# Altium footprint library Roby-Eva1.PcbLib: 14 footprints
Each footprint in its own frame and in the unit in brackets; x right, y up, seen from the top. Pads: shape width x height; smd on the part's side, far side on the other; paste and mask are expansions set on the pad; w line width, h text height; cw(c..) or ccw(c..) is an arc to the next point about the centre after c.
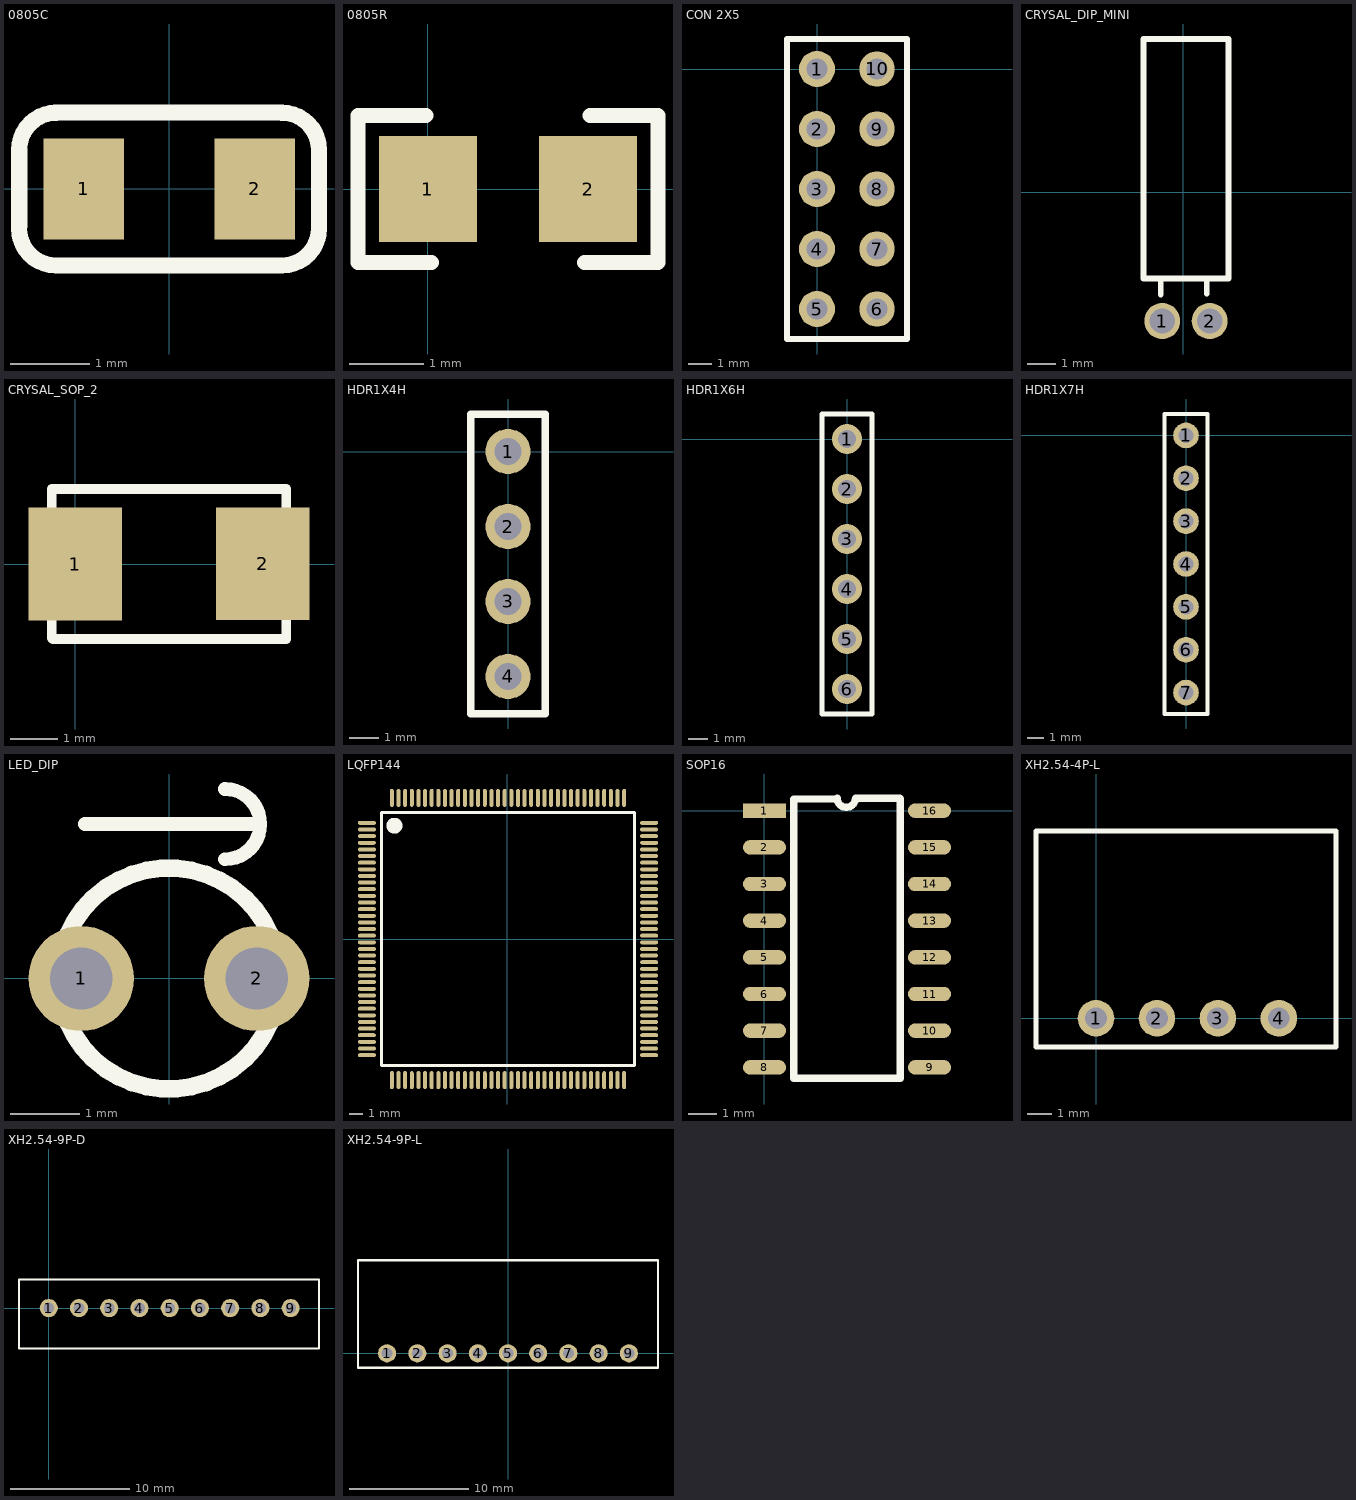
[diagram p0: the footprints below, top view; thin cyan lines are the x and y axes]

## 0805C [mil]
pads (2):
  rect 40x50 smd: 1(-42.5,0) 2(42.5,0)
Top Overlay:
  lines w8: -74.61,-19.59 ccw(c-56.2,-19.59) -56.2,-38 ; -74.5,-18.5 -74.5,18.5 ; -74.5,19.5 cw(c-56.09,19.5) -56.09,37.91 ; -56.62,38 55.59,38 ; -55.2,-38 55.61,-38 ; 56.09,-38 ccw(c56.09,-19.59) 74.5,-19.59 ; 56.09,37.91 cw(c56.09,19.5) 74.5,19.5 ; 74.5,-18.59 74.5,18.5
3D body: height 30.39, standoff -0.39, extent -39.35,-24.61 39.39,24.61

## 0805R [mil]
pads (2):
  rect 52x56 smd: 1(0,0) 2(85,0)
Top Overlay:
  lines w8: -1,39 -37,39 -37,-39 2,-39 ; 83,-39 122,-39 122,39 86,39
3D body: height 30.39, standoff -0.39, extent 3.26,-24.61 82,24.61

## CON 2X5 [mm]
height 10
pads (10):
  round 1.524 hole 0.9: 1(0,0) 2(0,-2.54) 3(0,-5.08) 4(0,-7.62) 5(0,-10.16)
  round 1.5 hole 0.9: 6(2.54,-10.16) 7(2.54,-7.62) 8(2.54,-5.08) 9(2.54,-2.54) 10(2.54,0)
Top Overlay:
  lines w0.254: -1.27,-11.43 -1.27,1.27 3.81,1.27 3.81,-11.43 -1.27,-11.43
3D body: height 2, standoff 0, extent -1.27,-11.43 3.81,1.27
3D body: height 10, standoff 0, extent -0.493,-10.649 0.507,-9.649
3D body: height 10, standoff 0, extent -0.507,-5.591 0.493,-4.591
3D body: height 10, standoff 0, extent -0.507,-8.131 0.493,-7.131
3D body: height 10, standoff 0, extent -0.507,-3.051 0.493,-2.051
3D body: height 10, standoff 0, extent -0.507,-0.511 0.493,0.489
3D body: height 10, standoff 0, extent 2.033,-0.511 3.033,0.489
3D body: height 10, standoff 0, extent 2.033,-3.051 3.033,-2.051
3D body: height 10, standoff 0, extent 2.033,-8.131 3.033,-7.131
3D body: height 10, standoff 0, extent 2.033,-5.591 3.033,-4.591
3D body: height 10, standoff 0, extent 2.047,-10.649 3.047,-9.649

## CRYSAL_DIP_MINI [mil] "晶振 小"
height 118.11
pads (2):
  round 50 hole 35: 1(-29,-179) 2(37,-179)
Top Overlay:
  lines w8: -31,-142 -31,-122 ; 33,-141 33,-122 ; -55,-120 -55,213 63.06,213 63.06,-120 -55,-120
3D body: height 122.05, standoff -133.86, extent -55.05,-189.14 63.06,211.97

## CRYSAL_SOP_2 [mm]
pads (2):
  rect 2x2.4 smd: 1(0,0) 2(4,0)
Top Overlay:
  lines w0.203: -0.5,-1.583 -0.5,1.6 4.5,1.6 4.5,-1.6 -0.483,-1.6 -0.5,-1.583
3D body: height 1.2, standoff 0, extent -0.483,-1.575 4.496,1.6

## HDR1X4H [mil]
pads (4):
  round 60 hole 35.43: 1(0,0) 2(0,-100) 3(0,-200) 4(0,-300)
Top Overlay:
  lines w10: -50,-350 50,-350 50,50 -50,50 -50,-350
3D body: height 393.7, standoff 0, extent -19.96,-320.13 19.41,-280.76
3D body: height 393.7, standoff 0, extent -19.96,-220.13 19.41,-180.76
3D body: height 393.7, standoff 0, extent -19.96,-120.13 19.41,-80.76
3D body: height 393.7, standoff 0, extent -19.96,-20.13 19.41,19.24
3D body: height 78.74, standoff 0, extent -50,-350 50,50

## HDR1X6H [mil]
pads (6):
  round 60 hole 35.43: 1(0,0) 2(0,-100) 3(0,-200) 4(0,-300) 5(0,-400) 6(0,-500)
Top Overlay:
  lines w10: -50,-550 50,-550 50,50 -50,50 -50,-550
3D body: height 393.7, standoff 0, extent -19.96,-20.13 19.41,19.24
3D body: height 393.7, standoff 0, extent -19.96,-120.13 19.41,-80.76
3D body: height 393.7, standoff 0, extent -19.96,-320.13 19.41,-280.76
3D body: height 393.7, standoff 0, extent -19.96,-220.13 19.41,-180.76
3D body: height 393.7, standoff 0, extent -19.41,-519.24 19.96,-479.87
3D body: height 393.7, standoff 0, extent -19.41,-419.24 19.96,-379.87
3D body: height 78.74, standoff 0, extent -50,-550 50,50

## HDR1X7H [mil]
pads (7):
  round 60 hole 35.43: 1(0,0) 2(0,-100) 3(0,-200) 4(0,-300) 5(0,-400) 6(0,-500) 7(0,-600)
Top Overlay:
  lines w10: -50,-650 50,-650 50,50 -50,50 -50,-650
3D body: height 393.7, standoff 0, extent -19.96,-20.13 19.41,19.24
3D body: height 393.7, standoff 0, extent -19.96,-120.13 19.41,-80.76
3D body: height 393.7, standoff 0, extent -19.96,-320.13 19.41,-280.76
3D body: height 393.7, standoff 0, extent -19.96,-220.13 19.41,-180.76
3D body: height 393.7, standoff 0, extent -19.41,-519.24 19.96,-479.87
3D body: height 393.7, standoff 0, extent -19.41,-419.24 19.96,-379.87
3D body: height 393.7, standoff 0, extent -19.41,-619.24 19.96,-579.87
3D body: height 78.74, standoff 0, extent -50,-650 50,50

## LED_DIP [mil]
pads (2):
  round 60 hole 35.43: 1(-50,0) 2(50,0)
Top Overlay:
  circle w10: c0,0 r62.99
  lines w7.87: -48,88 52,88 ; 32,68 ccw(c32,88) 52,88 ; 32,108 cw(c32,88) 52,88
3D body: height 196.85, standoff -236.22, extent -59.09,-68.89 68.89,68.9

## LQFP144 [mm]
height 2
pads (144):
  oval 1.35x0.3 smd: 1(-10.563,8.75) 2(-10.563,8.25) 3(-10.562,7.75) 4(-10.563,7.25) 5(-10.562,6.75) 6(-10.562,6.25) 7(-10.562,5.75) 8(-10.563,5.25) 9(-10.563,4.75) 10(-10.563,4.25) 11(-10.562,3.75) 12(-10.562,3.25) 13(-10.562,2.75) 14(-10.562,2.25) 15(-10.562,1.75) 16(-10.562,1.25) 17(-10.562,0.75) 18(-10.562,0.25) 19(-10.562,-0.25) 20(-10.562,-0.75) 21(-10.562,-1.25) 22(-10.562,-1.75) 23(-10.562,-2.25) 24(-10.562,-2.75) 25(-10.563,-3.25) 26(-10.562,-3.75) 27(-10.562,-4.25) 28(-10.563,-4.75) 29(-10.563,-5.25) 30(-10.563,-5.75) 31(-10.563,-6.25) 32(-10.563,-6.75) 33(-10.562,-7.25) 34(-10.562,-7.75) 35(-10.562,-8.25) 36(-10.563,-8.75) 73(10.688,-8.75) 74(10.688,-8.25) 75(10.688,-7.75) 76(10.688,-7.25) 77(10.688,-6.75) 78(10.688,-6.25) 79(10.688,-5.75) 80(10.688,-5.25) 81(10.688,-4.75) 82(10.688,-4.25) 83(10.688,-3.75) 84(10.688,-3.25) 85(10.688,-2.75) 86(10.688,-2.25) 87(10.688,-1.75) 88(10.688,-1.25) 89(10.688,-0.75) 90(10.688,-0.25) 91(10.688,0.25) 92(10.688,0.75) 93(10.688,1.25) 94(10.688,1.75) 95(10.688,2.25) 96(10.688,2.75) 97(10.688,3.25) 98(10.688,3.75) 99(10.688,4.25) 100(10.688,4.75) 101(10.688,5.25) 102(10.688,5.75) 103(10.688,6.25) 104(10.688,6.75) 105(10.688,7.25) 106(10.688,7.75) 107(10.688,8.25) 108(10.688,8.75)
  oval 0.3x1.35 smd: 37(-8.688,-10.625) 38(-8.187,-10.625) 39(-7.687,-10.625) 40(-7.187,-10.625) 41(-6.687,-10.625) 42(-6.187,-10.625) 43(-5.687,-10.625) 44(-5.187,-10.625) 45(-4.687,-10.625) 46(-4.187,-10.625) 47(-3.687,-10.625) 48(-3.187,-10.625) 49(-2.687,-10.625) 50(-2.187,-10.625) 51(-1.687,-10.625) 52(-1.187,-10.625) 53(-0.687,-10.625) 54(-0.187,-10.625) 55(0.313,-10.625) 56(0.813,-10.625) 57(1.313,-10.625) 58(1.813,-10.625) 59(2.313,-10.625) 60(2.813,-10.625) 61(3.313,-10.625) 62(3.813,-10.625) 63(4.313,-10.625) 64(4.813,-10.625) 65(5.313,-10.625) 66(5.813,-10.625) 67(6.313,-10.625) 68(6.813,-10.625) 69(7.313,-10.625) 70(7.813,-10.625) 71(8.313,-10.625) 72(8.813,-10.625) 109(8.813,10.625) 110(8.313,10.625) 111(7.813,10.625) 112(7.313,10.625) 113(6.812,10.625) 114(6.313,10.625) 115(5.813,10.625) 116(5.312,10.625) 117(4.812,10.625) 118(4.313,10.625) 119(3.813,10.625) 120(3.313,10.625) 121(2.813,10.625) 122(2.313,10.625) 123(1.813,10.625) 124(1.313,10.625) 125(0.813,10.625) 126(0.313,10.625) 127(-0.187,10.625) 128(-0.687,10.625) 129(-1.187,10.625) 130(-1.687,10.625) 131(-2.187,10.625) 132(-2.687,10.625) 133(-3.187,10.625) 134(-3.688,10.625) 135(-4.187,10.625) 136(-4.687,10.625) 137(-5.188,10.625) 138(-5.687,10.625) 139(-6.187,10.625) 140(-6.687,10.625) 141(-7.187,10.625) 142(-7.687,10.625) 143(-8.188,10.625) 144(-8.688,10.625)
Top Overlay:
  circle w0.6: c-8.493,8.534 r0.3
  lines w0.254: -9.462,-9.525 -9.463,9.525 9.587,9.525 9.587,-9.525 -9.462,-9.525
3D body: height 1.6, standoff 0, extent -10.936,-10.998 11.064,11.002

## SOP16 [mm]
pads (16):
  rect 1.5x0.5 smd: 1(0,0)
  oval 1.5x0.5 smd: 2(0,-1.27) 3(0,-2.54) 4(0,-3.81) 5(0,-5.08) 6(0,-6.35) 7(0,-7.62) 8(0,-8.89) 9(5.715,-8.89) 10(5.715,-7.62) 11(5.715,-6.35) 12(5.715,-5.08) 13(5.715,-3.81) 14(5.715,-2.54) 15(5.715,-1.27) 16(5.715,0)
Top Overlay:
  lines w0.254: 1.016,-9.271 1.016,0.406 2.489,0.406 ccw(c2.489,0.432) 2.515,0.432 ccw(c2.832,0.432) 3.15,0.432 4.674,0.432 cw(c4.674,0.406) 4.699,0.406 4.699,-9.271 1.016,-9.271
3D body: height 1.7, standoff 0, extent -0.21,-9.4 5.97,0.5

## XH2.54-4P-L [mil]
height 236.22
pads (4):
  round 60 hole 35.43: 1(0,0) 2(100,0) 3(200,0) 4(300,0)
Top Overlay:
  lines w7.87: -98.43,-47.24 393.7,-47.24 393.7,307.09 -98.43,307.09 -98.43,-47.24
3D body: height 224.41, standoff -98.43, extent -96.06,-11.36 396.07,303.6

## XH2.54-9P-D [mil]
height 275.59
pads (9):
  round 60 hole 35.43: 1(0,0) 2(100,0) 3(200,0) 4(300,0) 5(400,0) 6(500,0) 7(600,0) 8(700,0) 9(800,0)
Top Overlay:
  lines w7.87: 893,94.49 -98.43,94.49 -98.43,-133.86 893.7,-133.86 893.7,94.49

## XH2.54-9P-L [mil] "2.54"
height 236.22
pads (9):
  round 60 hole 35.43: 1(-400,0) 2(-300,0) 3(-200,0) 4(-100,0) 5(0,0) 6(100,0) 7(200,0) 8(300,0) 9(400,0)
Top Overlay:
  lines w7.87: -496.06,-47.24 496.06,-47.24 ; -496.06,-44 -496.06,307.09 496.06,307.09 496.06,-44
3D body: height 224.41, standoff -118.11, extent -494.49,-10.36 494.49,304.6